# Altium schematic symbol library LV8548MC.SchLib: 1 symbol
Pins are listed as number, name and electrical type; pins without a type are passive.

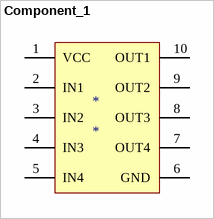
[diagram p0: symbol Component_1]

## Component_1
designator *
pins: 1 VCC, 2 IN1, 3 IN2, 4 IN3, 5 IN4, 6 GND, 7 OUT4, 8 OUT3, 9 OUT2, 10 OUT1